# Altium footprint library RTL8211F-CG.PcbLib: 3 footprints
Each footprint in its own frame and in the unit in brackets; x right, y up, seen from the top. Pads: shape width x height; smd on the part's side, far side on the other; paste and mask are expansions set on the pad; w line width, h text height; cw(c..) or ccw(c..) is an arc to the next point about the centre after c.
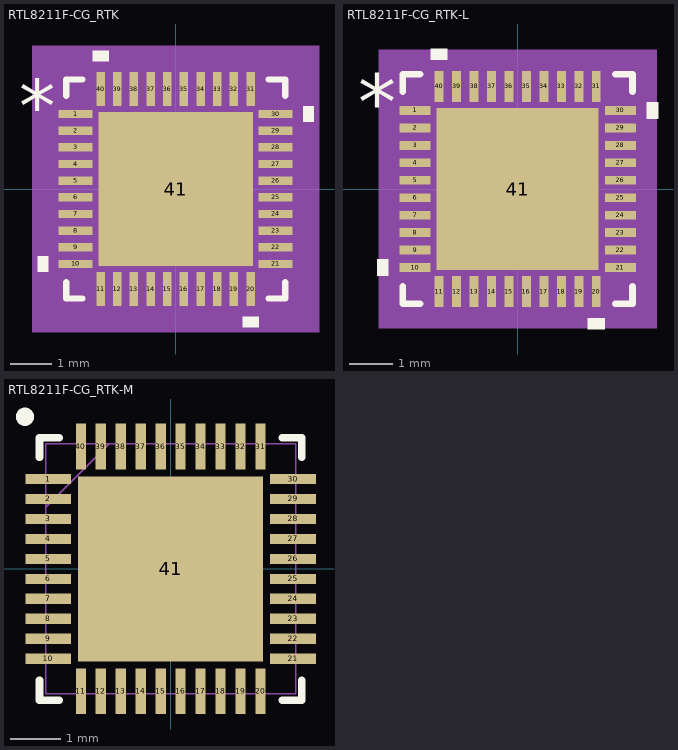
[diagram p0: the footprints below, top view; thin cyan lines are the x and y axes]

## RTL8211F-CG_RTK [mil]
pads (41):
  rect 32x8 smd paste+0 mask+0: 1(-94.5,70.87) 2(-94.5,55.12) 3(-94.5,39.37) 4(-94.5,23.62) 5(-94.5,7.87) 6(-94.5,-7.87) 7(-94.5,-23.62) 8(-94.5,-39.37) 9(-94.5,-55.12) 10(-94.5,-70.87) 21(94.5,-70.87) 22(94.5,-55.12) 23(94.5,-39.37) 24(94.5,-23.62) 25(94.5,-7.87) 26(94.5,7.87) 27(94.5,23.62) 28(94.5,39.37) 29(94.5,55.12) 30(94.5,70.87)
  rect 8x32 smd paste+0 mask+0: 11(-70.87,-94.5) 12(-55.12,-94.5) 13(-39.37,-94.5) 14(-23.62,-94.5) 15(-7.87,-94.5) 16(7.87,-94.5) 17(23.62,-94.5) 18(39.37,-94.5) 19(55.12,-94.5) 20(70.87,-94.5) 31(70.87,94.5) 32(55.12,94.5) 33(39.37,94.5) 34(23.62,94.5) 35(7.87,94.5) 36(-7.87,94.5) 37(-23.62,94.5) 38(-39.37,94.5) 39(-55.12,94.5) 40(-70.87,94.5)
  rect 146x146 smd paste-72.5 mask+0: 41(0,0)
Top Overlay:
  region: -120.5,-63.37 -130.5,-63.37 -130.5,-78.37 -120.5,-78.37
  region: 78.37,-120.5 63.37,-120.5 63.37,-130.5 78.37,-130.5
  region: 120.5,78.37 130.5,78.37 130.5,63.37 120.5,63.37
  region: -63.37,120.5 -78.37,120.5 -78.37,130.5 -63.37,130.5
  lines w6: -103.5,-87.97 -103.5,-103.5 -87.97,-103.5 ; -103.5,87.97 -103.5,103.5 -87.97,103.5 ; 87.97,-103.5 103.5,-103.5 103.5,-87.97 ; 87.97,103.5 103.5,103.5 103.5,87.97
  text "*" at -148,53.74 h50
Top Paste:
  region: -3.94,69.06 -69.06,69.06 -69.06,3.94 -3.94,3.94
  region: -3.94,-3.94 -69.06,-3.94 -69.06,-69.06 -3.94,-69.06
  region: 69.06,69.06 3.94,69.06 3.94,3.94 69.06,3.94
  region: 69.06,-3.94 3.94,-3.94 3.94,-69.06 69.06,-69.06
Mechanical 5:
  region: 135.5,-135.5 -135.5,-135.5 -135.5,135.5 135.5,135.5
Mechanical 13:
  drawing of 169 lines, arcs and shapes, not listed
  text "*" at -91,53.74 h50
Mechanical 15:
  region: -84.87,-108.5 -108.5,-108.5 -108.5,-84.87 -120.5,-84.87 -120.5,84.87 -108.5,84.87 -108.5,108.5 -84.87,108.5 -84.87,120.5 84.87,120.5 84.87,108.5 108.5,108.5 108.5,84.87 120.5,84.87 120.5,-84.87 108.5,-84.87 108.5,-108.5 84.87,-108.5 84.87,-120.5 -84.87,-120.5
  lines w6: -120.5,-84.87 -108.5,-84.87 -108.5,-108.5 -84.87,-108.5 -84.87,-120.5 84.87,-120.5 84.87,-108.5 108.5,-108.5 108.5,-84.87 120.5,-84.87 120.5,84.87 108.5,84.87 108.5,108.5 84.87,108.5 84.87,120.5 -84.87,120.5 -84.87,108.5 -108.5,108.5 -108.5,84.87 -120.5,84.87 -120.5,-84.87
3D body "RTL8211F-CG_RTK.step": height 35.12, standoff 0, extent -98.5,-98.5 98.5,98.5

## RTL8211F-CG_RTK-L [mil]
pads (41):
  rect 28x8 smd paste+0 mask+0: 1(-92.5,70.87) 2(-92.5,55.12) 3(-92.5,39.37) 4(-92.5,23.62) 5(-92.5,7.87) 6(-92.5,-7.87) 7(-92.5,-23.62) 8(-92.5,-39.37) 9(-92.5,-55.12) 10(-92.5,-70.87) 21(92.5,-70.87) 22(92.5,-55.12) 23(92.5,-39.37) 24(92.5,-23.62) 25(92.5,-7.87) 26(92.5,7.87) 27(92.5,23.62) 28(92.5,39.37) 29(92.5,55.12) 30(92.5,70.87)
  rect 8x28 smd paste+0 mask+0: 11(-70.87,-92.5) 12(-55.12,-92.5) 13(-39.37,-92.5) 14(-23.62,-92.5) 15(-7.87,-92.5) 16(7.87,-92.5) 17(23.62,-92.5) 18(39.37,-92.5) 19(55.12,-92.5) 20(70.87,-92.5) 31(70.87,92.5) 32(55.12,92.5) 33(39.37,92.5) 34(23.62,92.5) 35(7.87,92.5) 36(-7.87,92.5) 37(-23.62,92.5) 38(-39.37,92.5) 39(-55.12,92.5) 40(-70.87,92.5)
  rect 146x146 smd paste-72.5 mask+0: 41(0,0)
Top Overlay:
  region: -116.5,-63.37 -126.5,-63.37 -126.5,-78.37 -116.5,-78.37
  region: 78.37,-116.5 63.37,-116.5 63.37,-126.5 78.37,-126.5
  region: 116.5,78.37 126.5,78.37 126.5,63.37 116.5,63.37
  region: -63.37,116.5 -78.37,116.5 -78.37,126.5 -63.37,126.5
  lines w6: -103.5,-87.97 -103.5,-103.5 -87.97,-103.5 ; -103.5,87.97 -103.5,103.5 -87.97,103.5 ; 87.97,-103.5 103.5,-103.5 103.5,-87.97 ; 87.97,103.5 103.5,103.5 103.5,87.97
  text "*" at -144,53.74 h50
Top Paste:
  region: -3.94,69.06 -69.06,69.06 -69.06,3.94 -3.94,3.94
  region: -3.94,-3.94 -69.06,-3.94 -69.06,-69.06 -3.94,-69.06
  region: 69.06,69.06 3.94,69.06 3.94,3.94 69.06,3.94
  region: 69.06,-3.94 3.94,-3.94 3.94,-69.06 69.06,-69.06
Mechanical 5:
  region: 125.5,-125.5 -125.5,-125.5 -125.5,125.5 125.5,125.5
Mechanical 13:
  lines w1: -98.5,48.5 -48.5,98.5 ; -98.5,-98.5 98.5,-98.5 98.5,98.5 -98.5,98.5 -98.5,-98.5 ; -98.5,-75.87 -98.5,-65.87 -98.5,-75.87 ; -98.5,-60.12 -98.5,-50.12 -98.5,-60.12 ; -98.5,-44.37 -98.5,-34.37 -98.5,-44.37 ; -98.5,-28.62 -98.5,-18.62 -98.5,-28.62 ; -98.5,-12.87 -98.5,-2.87 -98.5,-12.87 ; -98.5,2.87 -98.5,12.87 -98.5,2.87 ; -98.5,18.62 -98.5,28.62 -98.5,18.62 ; -98.5,34.37 -98.5,44.37 -98.5,34.37 ; -98.5,50.12 -98.5,60.12 -98.5,50.12 ; -98.5,65.87 -98.5,75.87 -98.5,65.87 ; -75.87,-98.5 -65.87,-98.5 -75.87,-98.5 ; -75.87,98.5 -65.87,98.5 -75.87,98.5 ; -60.12,-98.5 -50.12,-98.5 -60.12,-98.5 ; -60.12,98.5 -50.12,98.5 -60.12,98.5 ; -44.37,-98.5 -34.37,-98.5 -44.37,-98.5 ; -44.37,98.5 -34.37,98.5 -44.37,98.5 ; -28.62,-98.5 -18.62,-98.5 -28.62,-98.5 ; -28.62,98.5 -18.62,98.5 -28.62,98.5 ; -12.87,-98.5 -2.87,-98.5 -12.87,-98.5 ; -12.87,98.5 -2.87,98.5 -12.87,98.5 ; 2.87,-98.5 12.87,-98.5 2.87,-98.5 ; 2.87,98.5 12.87,98.5 2.87,98.5 ; 18.62,-98.5 28.62,-98.5 18.62,-98.5 ; 18.62,98.5 28.62,98.5 18.62,98.5 ; 34.37,-98.5 44.37,-98.5 34.37,-98.5 ; 34.37,98.5 44.37,98.5 34.37,98.5 ; 50.12,-98.5 60.12,-98.5 50.12,-98.5 ; 50.12,98.5 60.12,98.5 50.12,98.5 ; 65.87,-98.5 75.87,-98.5 65.87,-98.5 ; 65.87,98.5 75.87,98.5 65.87,98.5 ; 98.5,-75.87 98.5,-65.87 98.5,-75.87 ; 98.5,-60.12 98.5,-50.12 98.5,-60.12 ; 98.5,-44.37 98.5,-34.37 98.5,-44.37 ; 98.5,-28.62 98.5,-18.62 98.5,-28.62 ; 98.5,-12.87 98.5,-2.87 98.5,-12.87 ; 98.5,2.87 98.5,12.87 98.5,2.87 ; 98.5,18.62 98.5,28.62 98.5,18.62 ; 98.5,34.37 98.5,44.37 98.5,34.37 ; 98.5,50.12 98.5,60.12 98.5,50.12 ; 98.5,65.87 98.5,75.87 98.5,65.87
  text "*" at -91,53.74 h50
Mechanical 15:
  region: -78.87,-102.5 -102.5,-102.5 -102.5,-78.87 -110.5,-78.87 -110.5,78.87 -102.5,78.87 -102.5,102.5 -78.87,102.5 -78.87,110.5 78.87,110.5 78.87,102.5 102.5,102.5 102.5,78.87 110.5,78.87 110.5,-78.87 102.5,-78.87 102.5,-102.5 78.87,-102.5 78.87,-110.5 -78.87,-110.5
  lines w6: -110.5,-78.87 -102.5,-78.87 -102.5,-102.5 -78.87,-102.5 -78.87,-110.5 78.87,-110.5 78.87,-102.5 102.5,-102.5 102.5,-78.87 110.5,-78.87 110.5,78.87 102.5,78.87 102.5,102.5 78.87,102.5 78.87,110.5 -78.87,110.5 -78.87,102.5 -102.5,102.5 -102.5,78.87 -110.5,78.87 -110.5,-78.87
3D body "RTL8211F-CG_RTK.step": height 35.12, standoff 0, extent -98.5,-98.5 98.5,98.5

## RTL8211F-CG_RTK-M [mil]
pads (41):
  rect 36x8 smd paste+0 mask+0: 1(-96.5,70.87) 2(-96.5,55.12) 3(-96.5,39.37) 4(-96.5,23.62) 5(-96.5,7.87) 6(-96.5,-7.87) 7(-96.5,-23.62) 8(-96.5,-39.37) 9(-96.5,-55.12) 10(-96.5,-70.87) 21(96.5,-70.87) 22(96.5,-55.12) 23(96.5,-39.37) 24(96.5,-23.62) 25(96.5,-7.87) 26(96.5,7.87) 27(96.5,23.62) 28(96.5,39.37) 29(96.5,55.12) 30(96.5,70.87)
  rect 8x36 smd paste+0 mask+0: 11(-70.87,-96.5) 12(-55.12,-96.5) 13(-39.37,-96.5) 14(-23.62,-96.5) 15(-7.87,-96.5) 16(7.87,-96.5) 17(23.62,-96.5) 18(39.37,-96.5) 19(55.12,-96.5) 20(70.87,-96.5) 31(70.87,96.5) 32(55.12,96.5) 33(39.37,96.5) 34(23.62,96.5) 35(7.87,96.5) 36(-7.87,96.5) 37(-23.62,96.5) 38(-39.37,96.5) 39(-55.12,96.5) 40(-70.87,96.5)
  rect 146x146 smd paste-72.5 mask+0: 41(0,0)
Top Overlay:
  circle w10: c-115,120 r2.16
  lines w6: -103.5,-87.97 -103.5,-103.5 -87.97,-103.5 ; -103.5,87.97 -103.5,103.5 -87.97,103.5 ; 87.97,-103.5 103.5,-103.5 103.5,-87.97 ; 87.97,103.5 103.5,103.5 103.5,87.97
Top Paste:
  region: 69.06,-3.94 3.94,-3.94 3.94,-69.06 69.06,-69.06
  region: 69.06,69.06 3.94,69.06 3.94,3.94 69.06,3.94
  region: -3.94,-3.94 -69.06,-3.94 -69.06,-69.06 -3.94,-69.06
  region: -3.94,69.06 -69.06,69.06 -69.06,3.94 -3.94,3.94
Mechanical 13:
  lines w1: -98.5,48.5 -48.5,98.5 ; -98.5,-98.5 -98.5,98.5 98.5,98.5 98.5,-98.5 -98.5,-98.5 ; -98.5,-75.87 -98.5,-65.87 -98.5,-75.87 ; -98.5,-60.12 -98.5,-50.12 -98.5,-60.12 ; -98.5,-44.37 -98.5,-34.37 -98.5,-44.37 ; -98.5,-28.62 -98.5,-18.62 -98.5,-28.62 ; -98.5,-12.87 -98.5,-2.87 -98.5,-12.87 ; -98.5,2.87 -98.5,12.87 -98.5,2.87 ; -98.5,18.62 -98.5,28.62 -98.5,18.62 ; -98.5,34.37 -98.5,44.37 -98.5,34.37 ; -98.5,50.12 -98.5,60.12 -98.5,50.12 ; -98.5,65.87 -98.5,75.87 -98.5,65.87 ; -75.87,-98.5 -65.87,-98.5 -75.87,-98.5 ; -75.87,98.5 -65.87,98.5 -75.87,98.5 ; -60.12,-98.5 -50.12,-98.5 -60.12,-98.5 ; -60.12,98.5 -50.12,98.5 -60.12,98.5 ; -44.37,-98.5 -34.37,-98.5 -44.37,-98.5 ; -44.37,98.5 -34.37,98.5 -44.37,98.5 ; -28.62,-98.5 -18.62,-98.5 -28.62,-98.5 ; -28.62,98.5 -18.62,98.5 -28.62,98.5 ; -12.87,-98.5 -2.87,-98.5 -12.87,-98.5 ; -12.87,98.5 -2.87,98.5 -12.87,98.5 ; 2.87,-98.5 12.87,-98.5 2.87,-98.5 ; 2.87,98.5 12.87,98.5 2.87,98.5 ; 18.62,-98.5 28.62,-98.5 18.62,-98.5 ; 18.62,98.5 28.62,98.5 18.62,98.5 ; 34.37,-98.5 44.37,-98.5 34.37,-98.5 ; 34.37,98.5 44.37,98.5 34.37,98.5 ; 50.12,-98.5 60.12,-98.5 50.12,-98.5 ; 50.12,98.5 60.12,98.5 50.12,98.5 ; 65.87,-98.5 75.87,-98.5 65.87,-98.5 ; 65.87,98.5 75.87,98.5 65.87,98.5 ; 98.5,-75.87 98.5,-65.87 98.5,-75.87 ; 98.5,-60.12 98.5,-50.12 98.5,-60.12 ; 98.5,-44.37 98.5,-34.37 98.5,-44.37 ; 98.5,-28.62 98.5,-18.62 98.5,-28.62 ; 98.5,-12.87 98.5,-2.87 98.5,-12.87 ; 98.5,2.87 98.5,12.87 98.5,2.87 ; 98.5,18.62 98.5,28.62 98.5,18.62 ; 98.5,34.37 98.5,44.37 98.5,34.37 ; 98.5,50.12 98.5,60.12 98.5,50.12 ; 98.5,65.87 98.5,75.87 98.5,65.87
3D body "RTL8211F-CG_RTK.step": height 35.12, standoff 0, extent -98.5,-98.5 98.5,98.5